# EAGLE library part POT_EVJC (library wheat)
POT, DUAL, EVJC PANASONIC
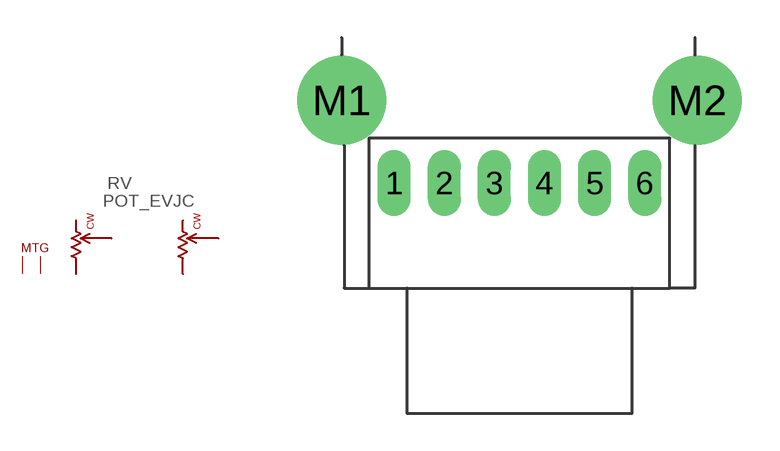
[diagram p11: symbol with the pads of POT_EVJC; footprint POT_EVJC]

Designator prefix RV

## POT_EVJC  [POT_EVJC]
1  W1  pas
2  CCW1  pas
3  CCW2  pas
4  W2  pas
5  CW2  pas
6  CW1  pas
M1  M1  pas
M2  M2  pas

## Footprint POT_EVJC (pad centres in mm)
POT, DUAL, EVJC PANASONIC
drill 0.813 long: 1 -5,4.2; 2 -3,4.2; 3 -1,4.2; 4 1,4.2; 5 3,4.2; 6 5,4.2
drill 2.54: M1 -7.1,7.5; M2 7.1,7.5